# EAGLE library part ESPRESSIF_SYSTEMS_ESP32-PICO-D4 (library nixiemisc)
ESP32 BLUETOOTH MODULE
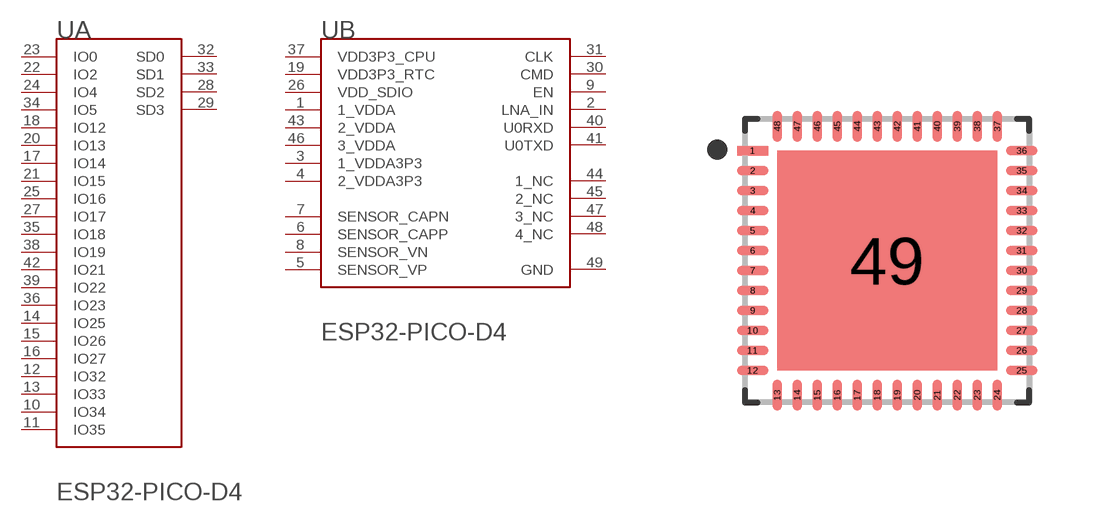
[diagram p23: symbol with the pads of ESPRESSIF_SYSTEMS_ESP32-PICO-D4_0; footprint ESPRESSIF_SYSTEMS_ESP32-PICO-D4_0]

Designator prefix U; gates A=ESPRESSIF_SYSTEMS_ESP32-PICO-D4_0_0 B=ESPRESSIF_SYSTEMS_ESP32-PICO-D4_0_1

## ESPRESSIF_SYSTEMS_ESP32-PICO-D4ESPRESSIF_SYSTEMS_ESP32-PICO-D4_0_0 (CENTROID_NOT_SPECIFIED: No; DATASHEET: https://www.espressif.com/sites/default/files/documentation/esp32-pico-d4_datasheet_en.pdf; DATA_RATE: 150mbps; DEVICE_CLASS_L1: Integrated Circuits (ICs); DEVICE_CLASS_L2: RF Semiconductors and Devices; DEVICE_CLASS_L3: Transceivers; DIGIKEY_DESCRIPTION: IC ESP32 WIFI BLUETOOTH; DIGIKEY_PART_NUMBER: 1904-1029-1-ND; FOOTPRINT_PARAMETERS_0: {"fp_type":"QFN","params":{"N1":{"nom":12,"long name":"Leads on long side","min":null,"max":null,"short name":"N1","type":"count"},"N2":{"nom":12,"long name":"Leads on wide side","min":null,"max":null,"short name":"N2","type":"count"},"A":{"nom":940000,"long name":"Height","min":840000,"max":1040000,"short name":"A","type":"measurement"},"A1":{"nom":false,"long name":"Package clearance","min":0,"max":50000,"short name":"A1","type":"measurement"},"A2":{"nom":false,"long name":"Package height","min":800000,"max":false,"short name":"A2","type":"measurement"},"D":{"nom":7000000,"long name":"Package length","min":6900000,"max":7100000,"short name":"D","type":"measurement"},"E":{"nom":7000000,"long name":"Package width","min":6900000,"max":7100000,"short name":"E","type":"measurement"},"B":{"nom":250000,"long name":"Lead width","min":200000,"max":300000,"short name":"B","type":"measurement"},"C":{"nom":260000,"long name":"Lead thickness","min":null,"max":null,"short name":"C","type":"measurement"},"L":{"nom":400000,"long name":"Lead foot length","min":325000,"max":475000,"short name":"L","type":"measurement"},"e":{"nom":500000,"long name":"Lead pitch","min":null,"max":null,"short name":"e","type":"measurement"},"HT":{"default":"Yes","long name":"Thermal pad","type":"multichoiceparent","short name":"HT","children":["D2","E2","PC"]},"offset x":{"nom":0,"long name":"X Center offset","min":null,"max":null,"short name":"offset x","type":"measurement"},"offset y":{"nom":0,"long name":"Y Center offset","min":null,"max":null,"short name":"offset y","type":"measurement"},"LS":{"default":"Rounded rectangle","long name":"Land shape","type":"multichoice","short name":"LS"},"LS1":{"default":"Rectangle","long name":"Land shape (Pin 1)","type":"multichoice","short name":"LS1"},"solder toe":{"nom":200000,"long name":"Solder fillet (toe)","min":null,"max":null,"short name":"solder toe","type":"fixedmeasurement"},"solder heel":{"nom":0,"long name":"Solder fillet (heel)","min":null,"max":null,"short name":"solder heel","type":"fixedmeasurement"},"solder side":{"nom":-40000,"long name":"Solder fillet (side)","min":null,"max":null,"short name":"solder side","type":"fixedmeasurement"},"courtyard":{"nom":100000,"long name":"Courtyard","min":null,"max":null,"short name":"courtyard","type":"fixedmeasurement"},"SF":{"default":"C","long name":"Packing level","type":"multichoiceparent","short name":"SF","help":"http://support.upverter.com/customer/portal/articles/978783-what-is-a-footprint-packing-level","children":["solder toe","solder heel","solder side","courtyard"]},"D2":{"nom":5400000,"long name":"Thermal pad length","min":5300000,"max":5500000,"short name":"D2","type":"measurement"},"E2":{"nom":5400000,"long name":"Thermal pad width","min":5300000,"max":5500000,"short name":"E2","type":"measurement"},"PC":{"long name":"Paste coverage (%)","type":"percentage","short name":"PC","value":40}}}; HEIGHT: 1.040mm; INTERFACE: I2C,SPI,UART,I2S,Other; IPC_LAND_PATTERN_NAME: QFN50P700X700X94-48; LEAD_FREE: yes; MAX_FREQUENCY: 2484MHz; MAX_SUPPLY_VOLTAGE: 3.6V; MF: Espressif Systems; MFG_PACKAGE_IDENT: ESP32-PICO-D4; MFG_PACKAGE_IDENT_DATE: 0; MFG_PACKAGE_IDENT_REV: 0; MIN_SUPPLY_VOLTAGE: 2.7V; MOUSER_PART_NUMBER: 356-ESP32-PICO-D4; MPN: ESP32-PICO-D4; NOMINAL_SUPPLY_CURRENT: 80mA; NUMBER_OF_ADC_CHANNELS: 18; NUMBER_OF_GPIO: 22; PACKAGE: QFN48; PREFIX: U; ROHS: yes; SENSITIVITY: -97dBm; TEMPERATURE_RANGE_HIGH: +85°C; TEMPERATURE_RANGE_LOW: -40°C; VERIFICATION_VERSION: 0.0.0.1)  [ESPRESSIF_SYSTEMS_ESP32-PICO-D4_0]
1  B:1_VDDA  pwr
2  B:LNA_IN
3  B:1_VDDA3P3  pwr
4  B:2_VDDA3P3  pwr
5  B:SENSOR_VP  in
6  B:SENSOR_CAPP  in
7  B:SENSOR_CAPN  in
8  B:SENSOR_VN  in
9  B:EN  in
10  A:IO34  in
11  A:IO35  in
12  A:IO32
13  A:IO33
14  A:IO25
15  A:IO26
16  A:IO27
17  A:IO14
18  A:IO12
19  B:VDD3P3_RTC  pwr
20  A:IO13
21  A:IO15
22  A:IO2
23  A:IO0
24  A:IO4
25  A:IO16
26  B:VDD_SDIO  pwr
27  A:IO17
28  A:SD2
29  A:SD3
30  B:CMD
31  B:CLK  in
32  A:SD0
33  A:SD1
34  A:IO5
35  A:IO18
36  A:IO23
37  B:VDD3P3_CPU  pwr
38  A:IO19
39  A:IO22
40  B:U0RXD  in
41  B:U0TXD  out
42  A:IO21
43  B:2_VDDA  pwr
44  B:1_NC  pas
45  B:2_NC  pas
46  B:3_VDDA  pwr
47  B:3_NC  pas
48  B:4_NC  pas
49  B:GND  pwr

## Footprint ESPRESSIF_SYSTEMS_ESP32-PICO-D4_0 (pad centres in mm)
ESP32 BLUETOOTH MODULE
smd 0.785 x 0.242: 1 -3.363,2.75; 2 -3.363,2.25; 3 -3.363,1.75; 4 -3.363,1.25; 5 -3.363,0.75; 6 -3.363,0.25; 7 -3.363,-0.25; 8 -3.363,-0.75; 9 -3.363,-1.25; 10 -3.363,-1.75; 11 -3.363,-2.25; 12 -3.363,-2.75; 25 3.363,-2.75; 26 3.363,-2.25; 27 3.363,-1.75; 28 3.363,-1.25; 29 3.363,-0.75; 30 3.363,-0.25; 31 3.363,0.25; 32 3.363,0.75; 33 3.363,1.25; 34 3.363,1.75; 35 3.363,2.25; 36 3.363,2.75
smd 0.242 x 0.785: 13 -2.75,-3.363; 14 -2.25,-3.363; 15 -1.75,-3.363; 16 -1.25,-3.363; 17 -0.75,-3.363; 18 -0.25,-3.363; 19 0.25,-3.363; 20 0.75,-3.363; 21 1.25,-3.363; 22 1.75,-3.363; 23 2.25,-3.363; 24 2.75,-3.363; 37 2.75,3.363; 38 2.25,3.363; 39 1.75,3.363; 40 1.25,3.363; 41 0.75,3.363; 42 0.25,3.363; 43 -0.25,3.363; 44 -0.75,3.363; 45 -1.25,3.363; 46 -1.75,3.363; 47 -2.25,3.363; 48 -2.75,3.363
smd 5.5 x 5.5: 49 0,0